# Altium schematic symbol library SchlibV01.SchLib: 6 symbols
Pins are listed as number, name and electrical type; pins without a type are passive.

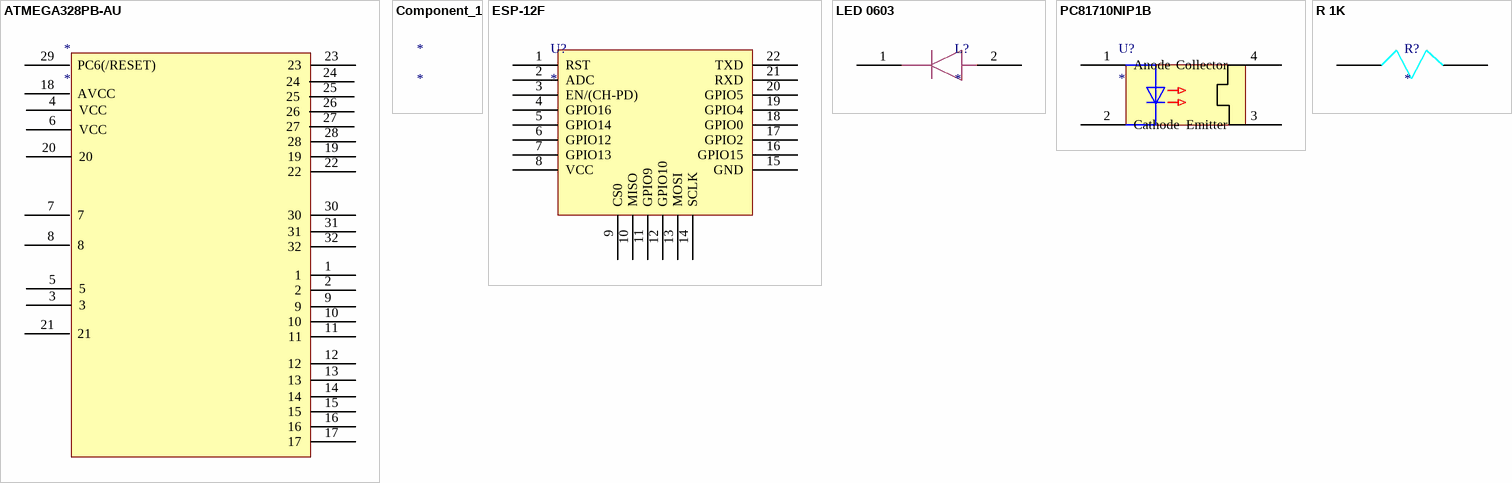
[diagram p0: symbols ATMEGA328PB-AU to R 1K]

## ATMEGA328PB-AU
designator *
AVR 32KBYTES Flash, 1KBYTES EEPROM, 2KBYTES Ram, W - 20MHZ, TQFP, Ind Temp, Green 5 V; Manufacturer: Microchip; Manufacturer Part Number: ATMEGA328PB-AU; Supplier: Rs; Supplier Part Number: 1468928P; RoHS: No; Category: Microcontrollers; Stock: 6255; Pricing: 25=1.276, 100=1.246 (GBP); ComponentLink1URL: http://www.farnell.com/datasheets/2014286.pdf?src-supplier=Farnell; ComponentLink1Description: http://www.farnell.com/datasheets/2014286.pdf?src-supplier=Farnell; ComponentLink2URL: http://www.farnell.com/datasheets/2014286.pdf?src-supplier=Newark; ComponentLink2Description: http://www.farnell.com/datasheets/2014286.pdf?src-supplier=Newark; ComponentLink3URL: http://www.farnell.com/datasheets/2014286.pdf?src-supplier=Element14; ComponentLink3Description: http://www.farnell.com/datasheets/2014286.pdf?src-supplier=Element14; ComponentLink4URL: http://www.microchip.com/mymicrochip/filehandler.aspx?ddocname=en589666&src-supplier=Digikey; ComponentLink4Description: http://www.microchip.com/mymicrochip/filehandler.aspx?ddocname=en589666&src-supplier=Digikey; ComponentLink5URL: https://datasheet.octopart.com/ATMEGA328PB-AU-Microchip-datasheet-62062422.pdf?src-supplier=Farnell; ComponentLink5Description: https://datasheet.octopart.com/ATMEGA328PB-AU-Microchip-datasheet-62062422.pdf?src-supplier=Farnell; ComponentLink6URL: http://www.atmel.com/images/atmel-42397-8-bit-avr-microcontroller-atmega328pb_summary.pdf?src-supplier=Avnet; ComponentLink6Description: http://www.atmel.com/images/atmel-42397-8-bit-avr-microcontroller-atmega328pb_summary.pdf?src-supplier=Avnet; ComponentLink7URL: https://datasheet.octopart.com/ATMEGA328PB-AU-Microchip-datasheet-81466992.pdf?src-supplier=TME; ComponentLink7Description: https://datasheet.octopart.com/ATMEGA328PB-AU-Microchip-datasheet-81466992.pdf?src-supplier=TME
pins: 1, 2, 3, 4 VCC, 5, 6 VCC, 7, 8, 9, 10, 11, 12, 13, 14, 15, 16, 17, 18 AVCC, 19, 20, 21, 22, 23, 24, 25, 26, 27, 28, 29 PC6(/RESET), 30, 31, 32

## Component_1
designator *

## ESP-12F
designator U?
ESP8266 SMT Module - ESP-12E | Adafruit Industries 2491; Manufacturer Part Number: 2491; Frequency: 2.4GHz; Data Rate: 72.2Mbps; Sensitivity: -91dBm; Interface: I2C,SPI,UART; Current - Receiving: 56mA; Current - Transmitting: 170mA; Supplier: Digikey; Supplier Part Number: 1528-1438-ND; Manufacturer: Adafruit Industries; RoHS: Yes; Category: RF Receivers, Transceivers; Stock: 146; Pricing: 1=6.95 (USD); Mounting Technology: Surface Mount; Case/Package: Module; Min Operating Temperature: -40°C; Max Operating Temperature: 125°C; Packaging: Bulk; ComponentLink1URL: https://www.mouser.com/ds/2/737/0A-ESP8266__Datasheet__EN_v4.3-1095239.pdf?src-supplier=Mouser; ComponentLink1Description: https://www.mouser.com/ds/2/737/0A-ESP8266__Datasheet__EN_v4.3-1095239.pdf?src-supplier=Mouser; ComponentLink2URL: https://www.adafruit.com/images/product-files/2471/0A-ESP8266__Datasheet__EN_v4.3.pdf?src-supplier=Digikey; ComponentLink2Description: https://www.adafruit.com/images/product-files/2471/0A-ESP8266__Datasheet__EN_v4.3.pdf?src-supplier=Digikey
footprint ESP-SMT
pins: 1 RST, 2 ADC, 3 EN/(CH-PD), 4 GPIO16, 5 GPIO14, 6 GPIO12, 7 GPIO13, 8 VCC, 9 CS0, 10 MISO, 11 GPIO9, 12 GPIO10, 13 MOSI, 14 SCLK, 15 GND, 16 GPIO15, 17 GPIO2, 18 GPIO0, 19 GPIO4, 20 GPIO5, 21 RXD, 22 TXD

## LED 0603
designator L?
footprint LED 0603
pins: 1, 2

## PC81710NIP1B
designator U?
Optocoupler 1-CH Open Collector 5000Vrms 4-Pin DIP SMD T/R; Manufacturer: Socle Technology; Manufacturer Part Number: PC81710NIP1B; Supplier: Digikey; Supplier Part Number: 1855-1014-1-ND; RoHS: No; Category: Optocouplers; Stock: 11083; Pricing: 1=1, 10=0.636, 100=0.4705, 500=0.43234, 1000=0.35605 (USD)
footprint PC817
pins: 1 Anode, 2 Cathode, 3 Emitter, 4 Collector

## R 1K
designator R?
SMD Chip Resistor, 10 kOhm, ï¿½ 1%, 125 mW, 0805 [2012 Metric], Thick Film, General Purpose; Manufacturer: Yageo; Manufacturer Part Number: RC0805FR-0710KL; Value: 10kR; Power Rating: 125mW; Temperature Coefficient: 100ppm/°C; Voltage Rating: 150V; Supplier: Future Electronics; Supplier Part Number: 3310877; RoHS: Yes; Category: Chip SMD Resistors; Stock: 8180000; Pricing: 5000=0.0025, 25000=0.0024, 100000=0.0023, 250000=0.0022, 625000=0.0021 (USD); Case/Package: 0805; Case Code (Imperial): 0805; Case Code (Metric): 2012; Min Operating Temperature: -55°C; Max Operating Temperature: 155°C; Packaging: Tape and Reel; Tolerance: 1%; Package Quantity: 1; Termination: SMD/SMT; Resistor Type: Thick Film; Number of Terminations: 2; Max Power Dissipation: 125mW; Features: Moisture Resistant; Series: RC; Construction: Rectangular; Resistance Tolerance: 1%; Voltage Rating (AC): 150V; Technology: THICK FILM; Length: 0.079inch; Width: 0.049inch; Height: 0.024inch; Depth: 1.25mm; Lead Free: Lead Free; Reach SVHC Compliant: Unknown; Military Standard: Not; RoHS Compliant: Yes
footprint 0805
pins: 1, 2